# Altium schematic symbol library SCH - POWER - SWITCH - VISHAY SIP3240x.SCHLIB: 1 symbol
Pins are listed as number, name and electrical type; pins without a type are passive.

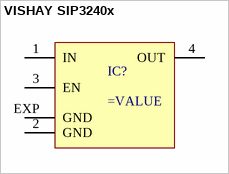
[diagram p0: symbol VISHAY SIP3240x]

## VISHAY SIP3240x
designator IC?
pins: 1 IN, 2 GND, 3 EN, 4 OUT, EXP GND